# EAGLE library part EZG-?-308 (library con-lemo)
LEMO Connector Source: http://www.lemo.com/pdfs/catalog/ROW/German/unipole_multipole.pdf
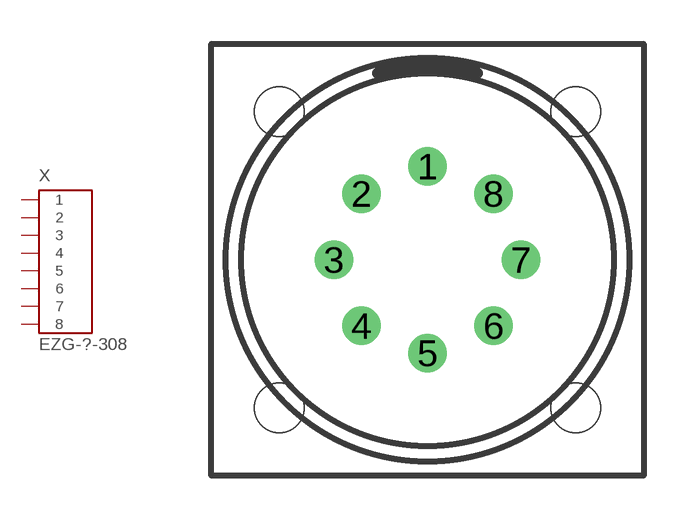
[diagram p3: symbol with the pads of EZG-2B-2K-308; footprint EZG-2B-2K-308]

Designator prefix X

## EZG-2B-308 (OC_FARNELL: unknown; OC_NEWARK: unknown)  [EZG-2B-2K-308]
1  1  pas
2  2  pas
3  3  pas
4  4  pas
5  5  pas
6  6  pas
7  7  pas
8  8  pas

## EZG-2K-308 (OC_FARNELL: unknown; OC_NEWARK: unknown)  [EZG-2B-2K-308]
Pads as for EZG-2B-2K-308

## Footprint EZG-2B-2K-308 (pad centres in mm)
LEMO Connector Source: http://www.lemo.com/pdfs/catalog/ROW/German/unipole_multipole.pdf
drill 0.8 pad 1.3: 1 0,3.2; 2 -2.263,2.263; 3 -3.2,0; 4 -2.263,-2.263; 5 0,-3.2; 6 2.263,-2.263; 7 3.2,0; 8 2.263,2.263
hole 1.7 at -5.08,5.08
hole 1.7 at 5.08,5.08
hole 1.7 at 5.08,-5.08
hole 1.7 at -5.08,-5.08